# Altium schematic symbol library SW-PB0.SCHLIB: 1 symbol
Pins are listed as number, name and electrical type; pins without a type are passive.

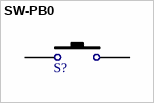
[diagram p0: symbol SW-PB0]

## SW-PB0
designator S?  (value not drawn)
Switch; Manufacturer: CW Industries; Manufacturer P/N: GPB507A05BB; Value: 6A 125VAC, 3A 250VAC; Type: SWITCH PUSH SPST-NO 6A 125V
footprint Model Name (Footprint not found)
footprint CONN1X2B
pins: 1, 2